# EAGLE library part 10118193-0001LF (library con-usb)
Connector Receptacle USB - micro B 2.0 5 Position Surface Mount, Right Angle, Horizontal
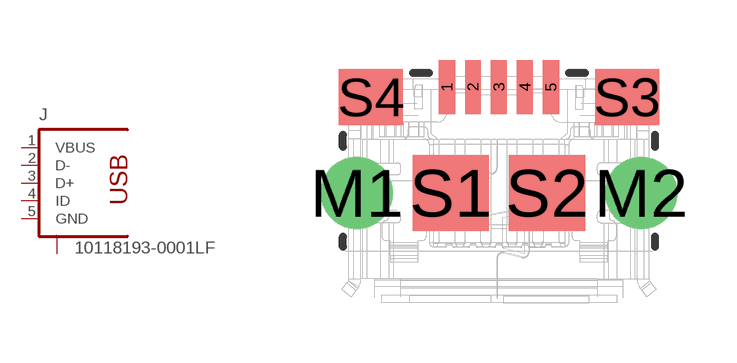
[diagram p13: symbol with the pads of 10118193-0001LF; footprint 10118193-0001LF]

Designator prefix J

## 10118193-0001LF  [10118193-0001LF]
1  VBUS  pas
2  D-  pas
3  D+  pas
4  ID  pas
5  GND  pas
M1  S  pas
M2  S  pas
S1  S  pas
S2  S  pas
S3  S  pas
S4  S  pas

## Footprint 10118193-0001LF (pad centres in mm)
USB Receptacle USB - micro B 2.0
smd 0.4 x 1.35: 1 -1.3,2.65; 2 -0.65,2.65; 3 0,2.65; 4 0.65,2.65; 5 1.3,2.65
drill 1.2: M1 -3.55,0; M2 3.55,0
smd 1.9 x 1.9: S1 -1.2,0; S2 1.2,0
smd 1.6 x 1.4: S3 3.2,2.4; S4 -3.2,2.4